# Altium schematic symbol library power_board_schhlib.SchLib: 66 symbols
Pins are listed as number, name and electrical type; pins without a type are passive.

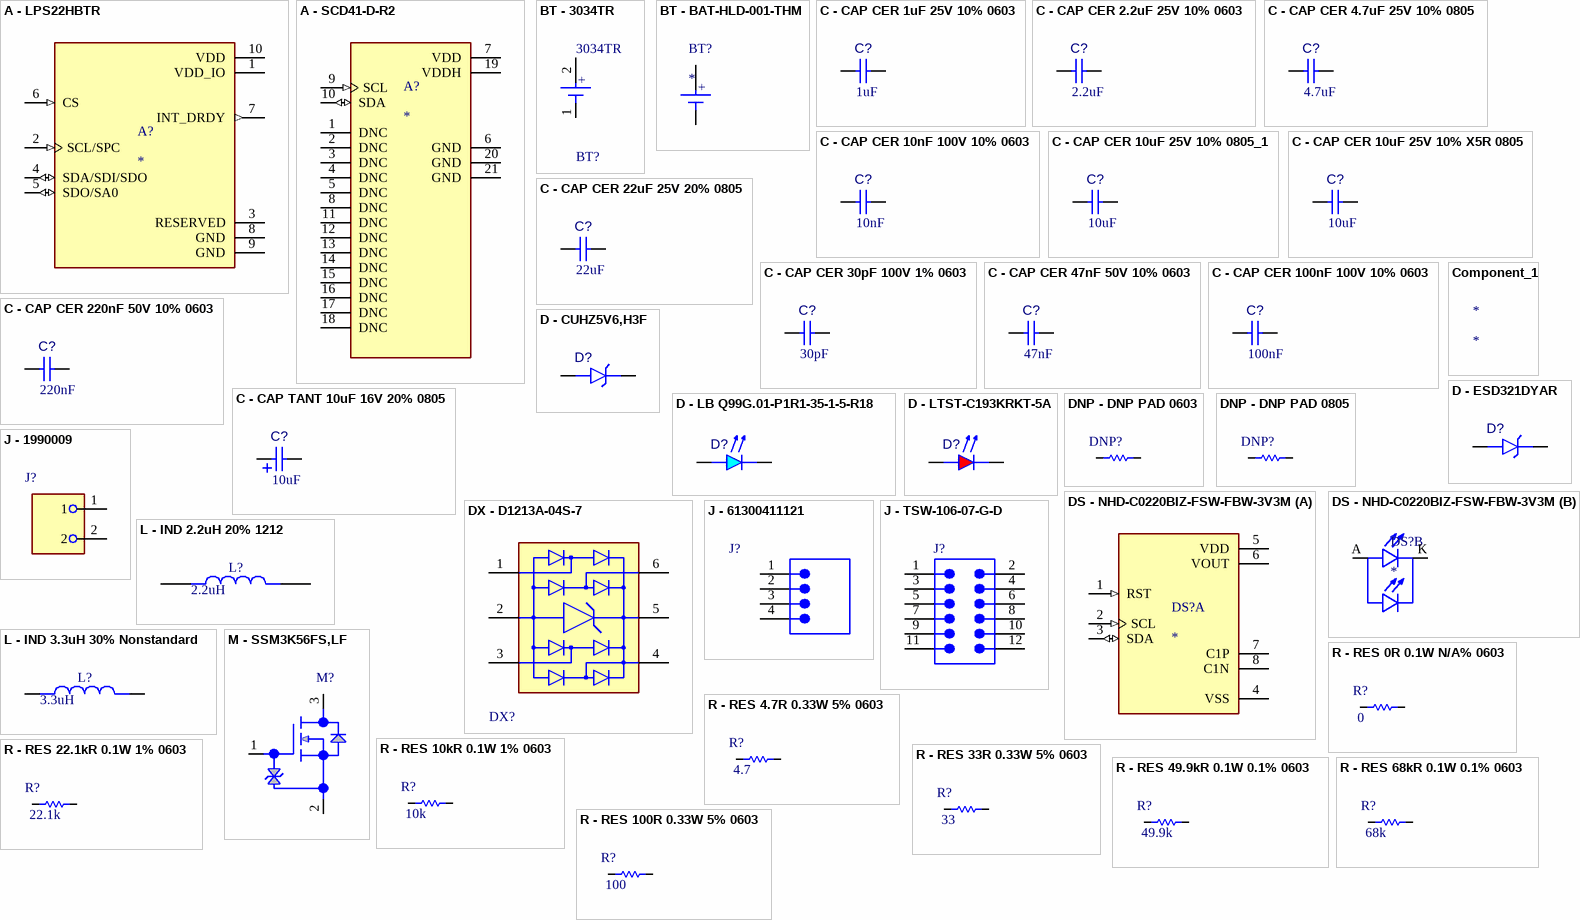
[diagram p0: symbols A - LPS22HBTR to R - RES 100R 0.33W 5% 0603]

## A - LPS22HBTR
designator A?
LPS22HBTR - Pressure Sensor 3.77PSI ~ 18.27PSI (26kPa ~ 126kPa) Absolute 24 b 10-WFLGA Exposed Pad; MF: STMicroelectronics; SnapEDA_Link: https://www.snapeda.com/parts/LPS22HBTR/STMicroelectronics/view-part/?ref=snap; Package: WFLGA-10 STMicroelectronics; MP: LPS22HBTR; Check_prices: https://www.snapeda.com/parts/LPS22HBTR/STMicroelectronics/view-part/?ref=eda; Purchase-URL: https://pricing.snapeda.com/search/part/LPS22HBTR/?ref=eda; Price: None; Value: *; Availability: In Stock
footprint A - PQFN50P200X200X80-10N
pins: 1 VDD_IO (power), 2 SCL/SPC (in), 3 RESERVED, 4 SDA/SDI/SDO (io), 5 SDO/SA0 (io), 6 CS (in), 7 INT_DRDY (out), 8 GND (power), 9 GND (power), 10 VDD (power)

## A - SCD41-D-R2
designator A?
SCD41-D-R2 - Air Quality Sensor CO2 Sensor 2.5V/3.3V/5V 20-Pin SMD EP; MF: Sensirion AG; SnapEDA_Link: https://www.snapeda.com/parts/SCD41-D-R2/Sensirion+AG/view-part/?ref=snap; Availability: In Stock; MP: SCD41-D-R2; Price: None; Purchase-URL: https://pricing.snapeda.com/search/part/SCD41-D-R2/?ref=eda; Package: None; Check_prices: https://www.snapeda.com/parts/SCD41-D-R2/Sensirion+AG/view-part/?ref=eda; Value: *
footprint A - XDCR_SCD41-D-R2
pins: 1 DNC, 2 DNC, 3 DNC, 4 DNC, 5 DNC, 6 GND (power), 7 VDD (power), 8 DNC, 9 SCL (in), 10 SDA (io), 11 DNC, 12 DNC, 13 DNC, 14 DNC, 15 DNC, 16 DNC, 17 DNC, 18 DNC, 19 VDDH (power), 20 GND (power), 21 GND (power)

## BT - 3034TR
designator BT?, comment 3034TR
3034TR - BATTERY RETAINER COIN 20MM SMD; Number of Batteries: 1; Lead Free: Lead Free; Mount: Surface Mount; Number of Cells: 1; Termination: SMD/SMT; Package Quantity: 500; Packaging: Tape and Reel; Contact Plating: Tin; Case/Package: SMD/SMT; Material: Bronze
footprint BT - 3034TR - MFG
pins: 1 C, 2 A
text: +

## BT - BAT-HLD-001-THM
designator BT?
footprint BT - BAT-HLD-001-THM
pins: N 1, P4 A
text: +

## C - CAP CER 1uF 25V 10% 0603
designator C?, comment value 1uF  (hidden comment: CAP CER 220nF 50V 10% 0603)
GCJ188R71E105KA01D - 1 µF ±10% 25V Ceramic Capacitor X7R 0603 (1608 Metric); Parameter 2: *
footprint CAP_0603
pins: 1, 2

## C - CAP CER 2.2uF 25V 10% 0603
designator C?  value 2.2uF
GRM188Z71E225KE43D - 2.2 µF ±10% 25V Ceramic Capacitor X7R 0603 (1608 Metric); Parameter 2: *
footprint CAP_0603
pins: 1, 2

## C - CAP CER 4.7uF 25V 10% 0805
designator C?, comment value 4.7uF  (hidden comment: CAP CER 220nF 50V 10% 0603)
GRM21BZ71E475KE15L - CAP CER 4.7UF 25V X7R 0805; Parameter 2: *
footprint CAP 0805
pins: 1, 2

## C - CAP CER 10nF 100V 10% 0603
designator C?  value 10nF
GCM188R72A103KA37D - 10000 pF ±10% 100V Ceramic Capacitor X7R 0603 (1608 Metric); Parameter 2: *
footprint CAP_0603
pins: 1, 2

## C - CAP CER 10uF 25V 10% 0805_1
designator C?, comment value 10uF  (hidden comment: CAP CER 220nF 50V 10% 0603)
GRM21BZ71E106KE15L - 10 µF ±10% 25V Ceramic Capacitor X7R 0805 (2012 Metric); Parameter 2: *
footprint CAP 0805
pins: 1, 2

## C - CAP CER 10uF 25V 10% X5R 0805
designator C?, comment value 10uF  (hidden comment: GRM21BR61E106KA73L)
GRM21BR61E106KA73L - 10 µF ±10% 25V Ceramic Capacitor X5R 0805 (2012 Metric); Parameter 2: *
footprint CAP 0805
pins: 1, 2

## C - CAP CER 22uF 25V 20% 0805
designator C?, comment value 22uF  (hidden comment: GRM21BR61E226ME44L)
GRM21BR61E226ME44L - 22 µF ±20% 25V Ceramic Capacitor X5R 0805 (2012 Metric); Parameter 2: *
footprint CAP 0805
pins: 1, 2

## C - CAP CER 30pF 100V 1% 0603
designator C?  value 30pF
GCM1885G2A300FA16J - 30 pF ±1% 100V Ceramic Capacitor X8G 0603 (1608 Metric); Parameter 2: *
footprint CAP_0603
pins: 1, 2

## C - CAP CER 47nF 50V 10% 0603
designator C?, comment value 47nF  (hidden comment: CAP CER 100nF 100V 10% 0603)
GCJ188R71H473KA12D - 0.047 µF ±10% 50V Ceramic Capacitor X7R 0603 (1608 Metric); Parameter 2: *
footprint CAP_0603
pins: 1, 2

## C - CAP CER 100nF 100V 10% 0603
designator C?  value 100nF
GRM188R72A104KA35D - 0.1 µF ±10% 100V Ceramic Capacitor X7R 0603 (1608 Metric); Parameter 2: *
footprint CAP_0603
pins: 1, 2

## C - CAP CER 220nF 50V 10% 0603
designator C?, comment value 220nF  (hidden comment: CAP CER 220nF 50V 10% 0603)
GCM188R71H224KA64D - 0.22 µF ±10% 50V Ceramic Capacitor X7R 0603 (1608 Metric); Parameter 2: *
footprint CAP_0603
pins: 1, 2

## C - CAP TANT 10uF 16V 20% 0805
designator C?  value 10uF
TCTP1C106M8R - 10 µF Molded Tantalum Capacitors 16 V 0805 (2012 Metric) 6Ohm; Parameter 2: *
footprint CAP 0805 TANT
pins: 1, 2

## Component_1
designator *

## D - CUHZ5V6,H3F
designator D?
CUHZ5V6,H3F - TVS DIODE 5.6VWM 5.7VC US2H
footprint D - CUHZ5V6,H3F
pins: 1 K, 2 A

## D - ESD321DYAR
designator D?
ESD321DYAR - 6.3V (Typ) Clamp 6A (8/20µs) Ipp Tvs Diode Surface Mount SOT-5X3
footprint D - ESD321DYAR (ESD321DYAR)
pins: 1 A, 2 K

## D - LB Q99G.01-P1R1-35-1-5-R18
designator D?
LB Q99G.01-P1R1-35-1-5-R18 - Blue 470nm LED Indication - Discrete 2.85V 0603 (1608 Metric)
footprint LED 0603
pins: 1 A, 2 K

## D - LTST-C193KRKT-5A
designator D?
LTST-C193KRKT-5A - Red 631nm LED Indication - Discrete 2V 0603 (1608 Metric)
footprint LED 0603
pins: 1 A, 2 K

## DNP - DNP PAD 0603
designator DNP?  (value not drawn)
footprint DNP 0603
pins: 1, 2

## DNP - DNP PAD 0805
designator DNP?  (value not drawn)
footprint DNP 0805
pins: 1, 2

## DS - NHD-C0220BIZ-FSW-FBW-3V3M
designator DS?
NHD-C0220BIZ-FSW-FBW-3V3M; MP: NHD-C0220BIZ-FSW-FBW-3V3M; Price: None; Availability: Unavailable; Value: *; Package: None
footprint DS - LCD_NHD-C0220BIZ-FSW-FBW-3V3M (NHD-C0220BIZ-FSW-FBW-3V3M)
part A pins: 1 RST (in), 2 SCL (in), 3 SDA (io), 4 VSS (power), 5 VDD (power), 6 VOUT (power), 7 C1P, 8 C1N
part B pins: A, K

## DX - D1213A-04S-7
designator DX?
D1213A-04S-7 - 10V (Typ) Clamp 1A (8/20µs) Ipp Tvs Diode Surface Mount SOT-363
footprint DX - D1213A-04S-7
pins: 1 CH1, 2 VN, 3 CH2, 4 CH3, 5 VP, 6 CH4

## J - 1990009
designator J?  (value not drawn)
1990009 - 2 Position Wire to Board Terminal Block 45° (135°) Angle with Board 0.098" (2.50mm) Through Hole
footprint J - 1990009
pins: 1, 2

## J - 61300411121
designator J?, comment Copy of SMTC-TSW-106-07-X-D_1  (value not drawn)
61300411121 - Connector Header Through Hole 4 position 0.100" (2.54mm)
footprint J - 61300411121
pins: 1, 2 3, 3 5, 4 7

## J - TSW-106-07-G-D
designator J?, comment Copy of SMTC-TSW-106-07-X-D_1  (value not drawn)
TSW-106-07-G-D - 0.025" SQ Post Header, Through-hole, Vertical, -55 to 125 degC, 2.54 mm Pitch, 12-Pin, Male, RoHS
footprint J - TSW-106-07-X-D_1
pins: 1, 2, 3, 4, 5, 6, 7, 8, 9, 10, 11, 12

## L - IND 2.2uH 20% 1212
designator L?  value 2.2uH
L - LQH3NPZ2R2MMEL
footprint L - 2.2uH 20% 1212
pins: 1, 2

## L - IND 3.3uH 30% Nonstandard
designator L?, comment value 3.3uH  (hidden comment: SRN8040-3R3Y)
SRN8040-3R3Y - 3.3 µH Shielded Drum Core, Wirewound Inductor 5.6 A 21mOhm Max Nonstandard
footprint L - SRN8040-3R3Y (SRN8040-3R3Y)
pins: 1, 2

## M - SSM3K56FS,LF
designator M?
SSM3K56FS,LF - N-Channel 20 V 800mA (Ta) 150mW (Ta) Surface Mount SSM; Manufacturer_Name: Toshiba Electronic Devices & Storage Corp.; Copyright: Copyright (C) 2026 Ultra Librarian. All rights reserved.; Manufacturer_Part_Number: SSM3K56FS,LF; Datasheet: https://toshiba.semicon-storage.com/info/docget.jsp?did=13419&prodName=SSM3K56FS; RefDes: Refdes; Type: Type
footprint M - SSM3K56FS,LF
pins: 1, 2, 3

## R - RES 0R 0.1W N/A% 0603
designator R?  value 0  (hidden comment: *)
ERJ-3GEY0R00V - 0 Ohms Jumper Chip Resistor 0603 (1608 Metric) Automotive AEC-Q200 Thick Film
footprint RES 0603
pins: 1, 2

## R - RES 4.7R 0.33W 5% 0603
designator R?  value 4.7  (hidden comment: *)
ERJ-PA3J4R7V - 4.7 Ohms ±5% 0.333W, 1/3W Chip Resistor 0603 (1608 Metric) Automotive AEC-Q200, Pulse Withstanding Thick Film
footprint RES 0603
pins: 1, 2

## R - RES 10kR 0.1W 1% 0603
designator R?  value 10k  (hidden comment: *)
ERA-3AEB103V - 10 kOhms ±0.1% 0.1W, 1/10W Chip Resistor 0603 (1608 Metric) Automotive AEC-Q200 Thin Film
footprint RES 0603
pins: 1, 2

## R - RES 22.1kR 0.1W 1% 0603
designator R?, comment value 22.1k  (hidden comment: ERJ-3EKF2212V)
ERJ-3EKF2212V - 22.1 kOhms ±1% 0.1W, 1/10W Chip Resistor 0603 (1608 Metric) Automotive AEC-Q200 Thick Film
footprint RES 0603
pins: 1, 2

## R - RES 33R 0.33W 5% 0603
designator R?  value 33  (hidden comment: *)
ERJ-PA3J330V - 33 Ohms ±5% 0.333W, 1/3W Chip Resistor 0603 (1608 Metric) Automotive AEC-Q200, Pulse Withstanding Thick Film
footprint RES 0603
pins: 1, 2

## R - RES 49.9kR 0.1W 0.1% 0603
designator R?  value 49.9k  (hidden comment: *)
ERA-3AEB4992V - 49.9 kOhms ±0.1% 0.1W, 1/10W Chip Resistor 0603 (1608 Metric) Automotive AEC-Q200 Thin Film
footprint RES 0603
pins: 1, 2

## R - RES 68kR 0.1W 0.1% 0603
designator R?  value 68k  (hidden comment: *)
ERA-3AEB683V - 68 kOhms ±0.1% 0.1W, 1/10W Chip Resistor 0603 (1608 Metric) Automotive AEC-Q200 Thin Film
footprint RES 0603
pins: 1, 2

## R - RES 100R 0.33W 5% 0603
designator R?  value 100  (hidden comment: *)
ERJ-PA3J101V - 100 Ohms ±5% 0.333W, 1/3W Chip Resistor 0603 (1608 Metric) Automotive AEC-Q200, Pulse Withstanding Thick Film
footprint RES 0603
pins: 1, 2

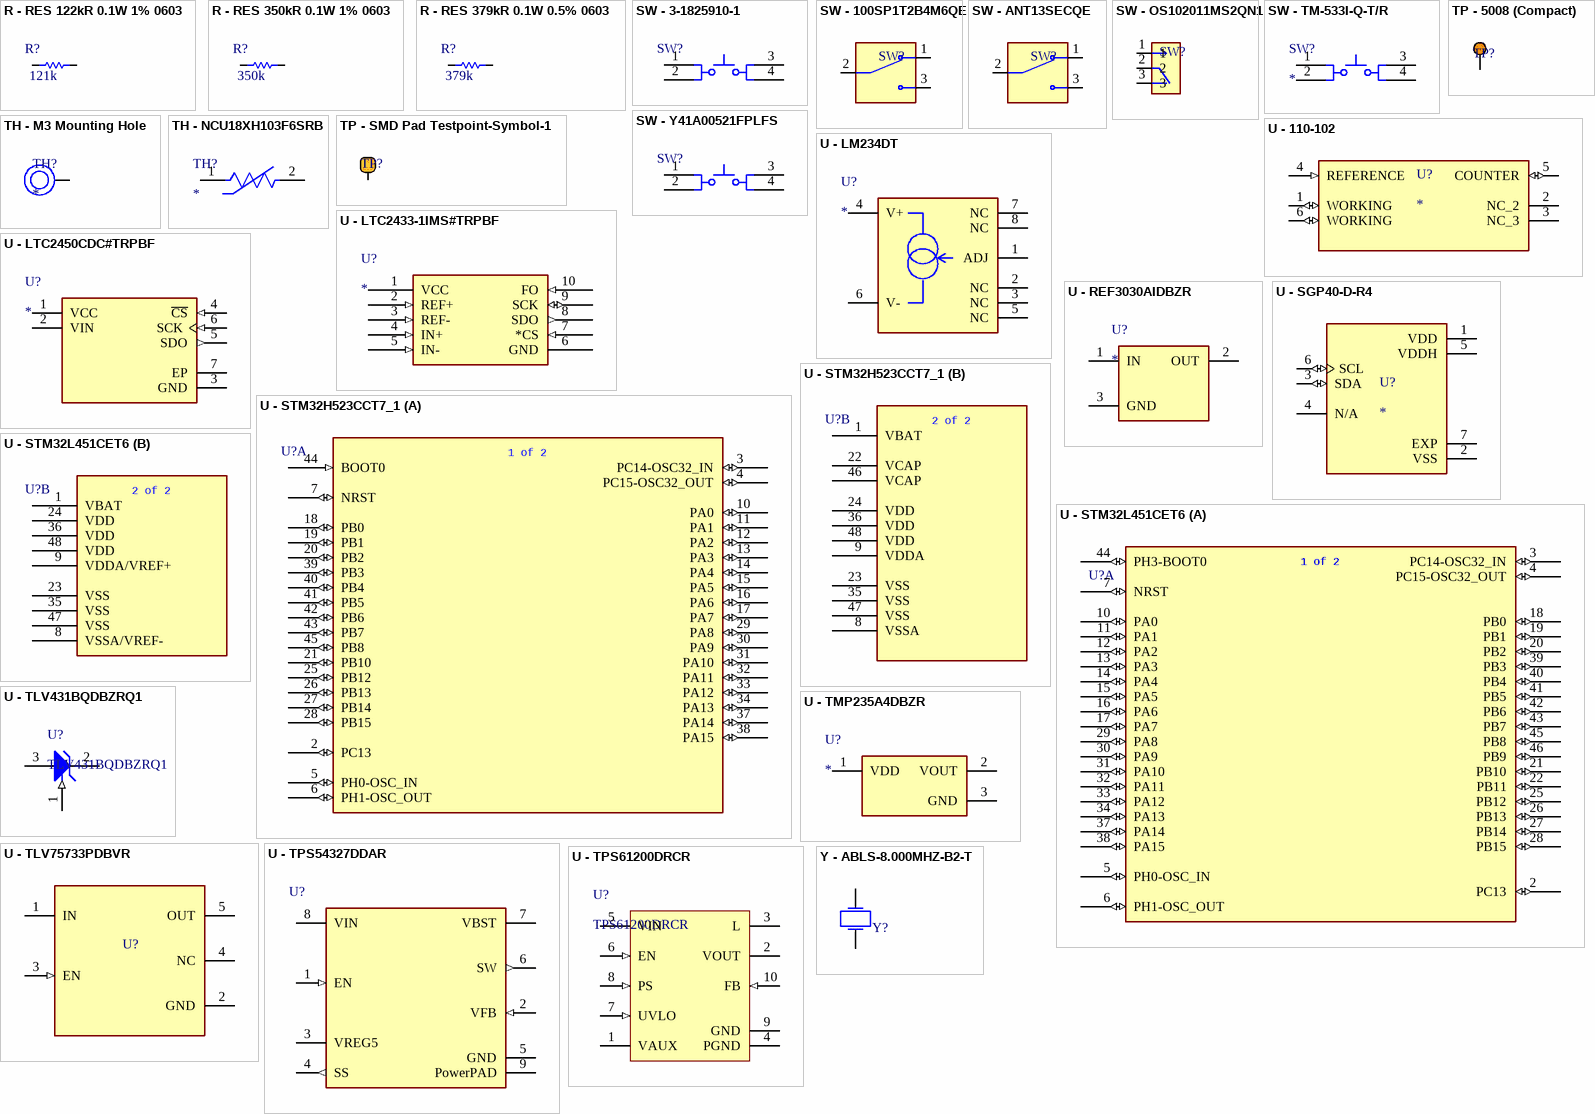
[diagram p1: symbols R - RES 122kR 0.1W 1% 0603 to Y - ABLS-8.000MHZ-B2-T]

## R - RES 122kR 0.1W 1% 0603
designator R?, comment value 121k  (hidden comment: RC0603FR-07121KL)
RC0603FR-07121KL - 121 kOhms ±1% 0.1W, 1/10W Chip Resistor 0603 (1608 Metric) Moisture Resistant Thick Film
footprint RES 0603
pins: 1, 2

## R - RES 350kR 0.1W 1% 0603
designator R?  value 350k  (hidden comment: *)
ERJ-3EKF3483V - 348 kOhms ±1% 0.1W, 1/10W Chip Resistor 0603 (1608 Metric) Automotive AEC-Q200 Thick Film
footprint RES 0603
pins: 1, 2

## R - RES 379kR 0.1W 0.5% 0603
designator R?  value 379k  (hidden comment: *)
RT0603DRE07379KL - 379 kOhms ±0.5% 0.1W, 1/10W Chip Resistor 0603 (1608 Metric) Thin Film
footprint RES 0603
pins: 1, 2

## SW - 3-1825910-1
designator SW?  (value not drawn)
3-1825910-1 - Tactile Switch SPST-NO Top Actuated Through Hole
footprint SW - 3-1825910-1 (3-1825910-1)
pins: 1, 2, 3, 4

## SW - 100SP1T2B4M6QE
designator SW?  (value not drawn)
100SP1T2B4M6QE - Toggle Switch, 100 Series, SPDT, ON-NONE-ON, Sealed, 5A, 120VAC, 28VDC, R/A PC; MF: E-Switch; Value: *; SnapEDA_Link: https://www.snapeda.com/parts/100SP1T2B4M6QE/E-Switch/view-part/?ref=snap; MP: 100SP1T2B4M6QE; Purchase-URL: https://pricing.snapeda.com/search/part/100SP1T2B4M6QE/?ref=eda; Check_prices: https://www.snapeda.com/parts/100SP1T2B4M6QE/E-Switch/view-part/?ref=eda; Availability: In Stock; Price: None; Package: None
footprint SW - 100SP1T2B4M6QE
pins: 1, 2, 3

## SW - ANT13SECQE
designator SW?  (value not drawn)
ANT13SECQE - Toggle Switch SPDT Through Hole 5A, 120V; MP: 100SP1T2B4M6QE; MF: E-Switch; Value: *; SnapEDA_Link: https://www.snapeda.com/parts/100SP1T2B4M6QE/E-Switch/view-part/?ref=snap; Purchase-URL: https://pricing.snapeda.com/search/part/100SP1T2B4M6QE/?ref=eda; Check_prices: https://www.snapeda.com/parts/100SP1T2B4M6QE/E-Switch/view-part/?ref=eda; Availability: In Stock; Price: None; Package: None
footprint SW - ANT13SECQE (ANT13SECQE)
pins: 1, 2, 3

## SW - OS102011MS2QN1
designator SW?  (value not drawn)
OS102011MS2QN1 - SLIDE SWITCH SPDT T/H ON-ON BBM; MF: C&K; SnapEDA_Link: https://www.snapeda.com/parts/OS102011MS2QN1/C%2526K/view-part/?ref=snap; Purchase-URL: https://pricing.snapeda.com/search/part/OS102011MS2QN1/?ref=eda; MP: OS102011MS2QN1; Value: *; Digi-Key_Part_Number: CKN9565-ND; Check_prices: https://www.snapeda.com/parts/OS102011MS2QN1/C%2526K/view-part/?ref=eda; Package: None
footprint SW - OS102011MS2QN1
pins: 1, 2, 3

## SW - TM-533I-Q-T/R
designator SW?
footprint SW - TM-533I-Q-T/R
pins: 1, 2, 3, 4

## SW - Y41A00521FPLFS
designator SW?  (value not drawn)
Y41A00521FPLFS - Pushbutton Switch SPST-NO Keyswitch Through Hole
footprint SW - Y41A00521FPLFS
pins: 1, 2, 3, 4

## TH - M3 Mounting Hole
designator TH?
footprint M3 Mounting
pins: 1

## TH - NCU18XH103F6SRB
designator TH?
Thermistor
footprint RES 0603
footprint TH - FP-NCU18-0_15-MFG
pins: 1, 2

## TP - 5008 (Compact)
designator TP?  (value not drawn)
5008 - Orange PC Test Point, Compact Phosphor Bronze Silver Plating Through Hole Mounting Type
footprint 5008 - Keystone Compact Footprint
pins: 1

## TP - SMD Pad Testpoint-Symbol-1
designator TP?  (value not drawn)
Testpoint used for debugging and testing. SMD Pad
footprint TP - SMD Pad Testpoint
pins: 1

## U - 110-102
designator U?
110-102 - SENSOR GAS CO ANALOG CUR MOD; Package: None; Price: None; Value: *; MP: 110-102; Availability: Unavailable
footprint U - XDCR_110-102
pins: 1 WORKING (io), 2 NC_2, 3 NC_3, 4 REFERENCE (in), 5 COUNTER (io), 6 WORKING (io)

## U - LM234DT
designator U?
footprint U - LM234DT
pins: 1 ADJ, 2 NC, 3 NC, 4 V+, 5 NC, 6 V-, 7 NC, 8 NC

## U - LTC2433-1IMS#TRPBF
designator U?
MF: {'manufacturer': u'Analog Devices Inc.'}; MP: LTC2433-1IMS#TRPBF; Package: None; Price: None; Value: *; Availability: Unavailable
footprint U - LTC2433-1IMS#TRPBF
pins: 1 VCC (power), 2 REF+ (in), 3 REF- (in), 4 IN+ (in), 5 IN- (in), 6 GND (power), 7 *CS (in), 8 SDO (out), 9 SCK (io), 10 FO (in)

## U - LTC2450CDC#TRPBF
designator U?
LTC2450CDC#TRPBF - 16 Bit Analog to Digital Converter 1 Input 1 Sigma-Delta 6-DFN (2x2)
footprint U - LTC2450CDC#TRPBF - MFG
pins: 1 VCC (power), 2 VIN (power), 3 GND (power), 4 ~{CS} (in), 5 SDO (out), 6 SCK (in), 7 EP

## U - REF3030AIDBZR
designator U?
REF3030AIDBZR - Series Voltage Reference IC Fixed 3V V ±0.2% 25 mA SOT-23-3
footprint U - REF3030AIDBZR
pins: 1 IN (power), 2 OUT (power), 3 GND (power)

## U - SGP40-D-R4
designator U?
SGP40-D-R4 - AIR QUALITY GAS SENSOR LOW POWER; MF: Sensirion AG; SnapEDA_Link: https://www.snapeda.com/parts/SGP40-D-R4/Sensirion/view-part/?ref=snap; Package: None; Value: *; MP: SGP40-D-R4; Check_prices: https://www.snapeda.com/parts/SGP40-D-R4/Sensirion/view-part/?ref=eda
footprint U - XCDR_SGP40-D-R4
pins: 1 VDD (power), 2 VSS (power), 3 SDA (io), 4 N/A, 5 VDDH (power), 6 SCL (io), 7 EXP (power)

## U - STM32H523CCT7_1
designator U?, comment STM32H523CCT6  (value not drawn)
STM32H523CCT7 - High-performance, Arm Cortex-M33, MCU with 256-Kbyte Flash, 272-Kbyte RAM, 250 MHz CPU; Manufacturer_Name: STMicroelectronics; Copyright: Copyright (C) 2025 Ultra Librarian. All rights reserved.; Manufacturer_Part_Number: STM32H523CCT6; Datasheet: https://www.st.com/resource/en/datasheet/stm32h523ce.pdf; RefDes: RefDes; Type: Type
footprint U - LQFP48_STM (STM32H523CCT7)
part A pins: 2 PC13 (io), 3 PC14-OSC32_IN (io), 4 PC15-OSC32_OUT (io), 5 PH0-OSC_IN (io), 6 PH1-OSC_OUT (io), 7 NRST (io), 10 PA0 (io), 11 PA1 (io), 12 PA2 (io), 13 PA3 (io), 14 PA4 (io), 15 PA5 (io), 16 PA6 (io), 17 PA7 (io), 18 PB0 (io), 19 PB1 (io), 20 PB2 (io), 21 PB10 (io), 25 PB12 (io), 26 PB13 (io), 27 PB14 (io), 28 PB15 (io), 29 PA8 (io), 30 PA9 (io), 31 PA10 (io), 32 PA11 (io), 33 PA12 (io), 34 PA13 (io), 37 PA14 (io), 38 PA15 (io), 39 PB3 (io), 40 PB4 (io), 41 PB5 (io), 42 PB6 (io), 43 PB7 (io), 44 BOOT0 (in), 45 PB8 (io)
part B pins: 1 VBAT (power), 8 VSSA (power), 9 VDDA (power), 22 VCAP (power), 23 VSS (power), 24 VDD (power), 35 VSS (power), 36 VDD (power), 46 VCAP (power), 47 VSS (power), 48 VDD (power)
part A text: 1 of 2
part B text: 2 of 2

## U - STM32L451CET6
designator U?, comment STM32L451CET6  (value not drawn)
STM32L451CET6 - Ultra-low-power with FPU Arm Cortex-M4 MCU 80 MHz with 512 kbytes of Flash memory, DFSDM; Manufacturer_Name: STMicroelectronics; Copyright: Copyright (C) 2026 Ultra Librarian. All rights reserved.; Manufacturer_Part_Number: STM32L451CET6; Datasheet: https://www.st.com/resource/en/datasheet/stm32l451cc.pdf; RefDes: RefDes; Type: Type
footprint U - STM32L451CET6 (LQFP48-7x7mm)
part A pins: 2 PC13 (io), 3 PC14-OSC32_IN (io), 4 PC15-OSC32_OUT (io), 5 PH0-OSC_IN (io), 6 PH1-OSC_OUT (io), 7 NRST (io), 10 PA0 (io), 11 PA1 (io), 12 PA2 (io), 13 PA3 (io), 14 PA4 (io), 15 PA5 (io), 16 PA6 (io), 17 PA7 (io), 18 PB0 (io), 19 PB1 (io), 20 PB2 (io), 21 PB10 (io), 22 PB11 (io), 25 PB12 (io), 26 PB13 (io), 27 PB14 (io), 28 PB15 (io), 29 PA8 (io), 30 PA9 (io), 31 PA10 (io), 32 PA11 (io), 33 PA12 (io), 34 PA13 (io), 37 PA14 (io), 38 PA15 (io), 39 PB3 (io), 40 PB4 (io), 41 PB5 (io), 42 PB6 (io), 43 PB7 (io), 44 PH3-BOOT0 (io), 45 PB8 (io), 46 PB9 (io)
part B pins: 1 VBAT (power), 8 VSSA/VREF- (power), 9 VDDA/VREF+ (power), 23 VSS (power), 24 VDD (power), 35 VSS (power), 36 VDD (power), 47 VSS (power), 48 VDD (power)
part A text: 1 of 2
part B text: 2 of 2

## U - TLV431BQDBZRQ1
designator U?, comment TLV431BQDBZRQ1
Automotive Catalog Low-Voltage Adjustable Precision Shunt Regulator, 15 mA, -40 to 125 degC, 3-pin SOT-23 (DBZ), Green (RoHS & no Sb/Br); Manufacturer: Texas Instruments; VO Adj(Min)(V): 1.24; Iout/Iz(Max)(mA): 15; Min Iz for Regulation(uA): 80; Initial Accuracy @ 25/deg C(%): 0.5; VO Adj(Max)(V): 6; SubFamily: Shunt Voltage Reference; Code_JEDEC: TO-236; Mounting Technology: Surface Mount; Eco-Plan: Green (RoHS & no Sb/Br); ComponentLink2Description: Datasheet; ComponentLink1URL: http://www.ti.com/; ComponentLink1Description: Manufacturer URL; ComponentLink3Description: Package Specification; PackageDescription: 3-Pin Plastic Small Outline, Body 2.92 x 1.3 mm, Pitch 0.95 mm; ComponentLink3URL: http://www.ti.com/litv/pdf/mpds108a; PackageVersion: 4203227/B; PartNumber: TLV431BQDBZRQ1; ComponentLink2URL: http://www.ti.com/general/docs/lit/getliterature.tsp?genericPartNumber=TLV431B-Q1&fileType=pdf; DatasheetVersion: SLVS905; Rating: Automotive; PackageReference: DBZ0003A
footprint U - TLV431BQDBZRQ1 (SOT23, 3-Leads, Body 3.04x1.4mm, Pitch 0.95mm, IPC Low Density)
pins: 1 REF (in), 2 CATHODE, 3 ANODE

## U - TLV75733PDBVR
designator U?, comment TLV75733PDBVR  (value not drawn)
TLV75733PDBVR - 1-A, low-IQ high-accuracy low-dropout (LDO) voltage regulator with enable 5-SOT-23 -40 to 125; Manufacturer_Name: Texas Instruments; TYPE: TYPE; RefDes: RefDes; Copyright: Copyright (C) 2025 Ultra Librarian. All rights reserved.; Manufacturer_Part_Number: TLV75733PDBVR
footprint U - TLV75733PDBVR
pins: 1 IN (power), 2 GND (power), 3 EN (in), 4 NC, 5 OUT (power)

## U - TMP235A4DBZR
designator U?
TMP235A4DBZR - Temperature Sensor Analog, Local -40°C ~ 150°C 10mV/°C SOT-23-3
footprint U - TMP235A4DBZR - MFG
pins: 1 VDD (power), 2 VOUT, 3 GND (power)

## U - TPS54327DDAR
designator U?  (value not drawn)
TPS54327DDAR - 4.5V to 18V Input, 3-A Synchronous Step-Down Converter 8-SO PowerPAD -40 to 85; Manufacturer: Texas Instruments; Manufacturer Lifecycle Status: ACTIVE; Max Duty Cycle: 65%; Max Junction Temperature (Tj): 150°C; Max Output current: 3A; Max Output Voltage: 7V; Min Output Voltage: 760mV; Number of Outputs: 1; Output Type: Adjustable; Quiescent Current: 800µA; Switching Frequency: 700kHz; Synchronous Rectifier: Yes; Topology: Buck; Supplier: Arrow Electronics; Supplier Part Number: TPS54327DDAR; Manufacturer Part Number: TPS54327DDAR; RoHS: Compliant; Category: Voltage Regulators - Switching; Stock: 1279; Pricing: 1=0.6794, 10=0.6274, 25=0.6062, 100=0.5869, 250=0.5746, 500=0.5667, 1000=0.5659 (USD); Ambient Temperature Range High: 85°C; Case/Package: SOIC; Height: 1.7mm; Lead Free: Lead Free; Length: 4.89mm; Lifecycle Status: Production; Max Supply Voltage: 18V; Max Operating Temperature: 85°C; Min Input Voltage: 4.5V; Min Operating Temperature: -40°C; Min Supply Voltage: 4.5V; Mounting Technology: Surface Mount; Pins: 8; Operating Supply Voltage: 18V; Output Current: 3A; Output Voltage: 7V; Radiation Hardening: No; REACH SVHC: No; Schedule B: 8542390000, 8542390000|8542390000|8542390000|8542390000|8542390000|8542390000|8542390000|8542390000|8542390000|8542390000|8542390000|8542390000|8542390000|8542390000|8542390000|8542390000|8542390000|8542390000|8542390000|8542390000|8542390000|8542390000|8542390000|85; Thickness: 1.48mm; Width: 3.9mm; ComponentLink1URL: https://sigma.octopart.com:443/104526336/technical_drawing/Texas-Instruments-TPS54327DDAR.pdf?src-supplier=Texas+Instruments; ComponentLink1Description: https://sigma.octopart.com:443/104526336/technical_drawing/Texas-Instruments-TPS54327DDAR.pdf?src-supplier=Texas+Instruments; ComponentLink2URL: https://octopart.com:443/opatz8j6/c1?t=__oNFOOaapSnVhz0JflxbbROEjMn8qx0VggcesLOsXVm1qBAI6HAgPyurjCw25N1bkmQFW9yPGBgGx0-OV6a1qCNd9haLjfDrSeyB36yHi6CHhDXm-X7AM3shTtTS0K4ufWLPGM9035tvF3WY9KNnW27Vhg7gZVrUz3zgjZoNzKmWPY3h9s6FdGiccB1hjyl0IMgFUWajN9-O9PJGonuZiqlYX9N7MFFrv_aEWgd4nLGzrjzb1ZMCAGS7na2gkf_w1DNitacGewcJ7_jjdbNMF49miKa1GomPL32h1pk-zJMmO4U7WZEuJMSZzz263ggCOI6NALWkgBSsXKod034_KSXhjmHQ1neP2H1Fy7hs0iEIe6iEpO48cB1RbMREqoeTuPL-udS&src-supplier=Texas+Instruments; ComponentLink2Description: https://octopart.com:443/opatz8j6/c1?t=__oNFOOaapSnVhz0JflxbbROEjMn8qx0VggcesLOsXVm1qBAI6HAgPyurjCw25N1bkmQFW9yPGBgGx0-OV6a1qCNd9haLjfDrSeyB36yHi6CHhDXm-X7AM3shTtTS0K4ufWLPGM9035tvF3WY9KNnW27Vhg7gZVrUz3zgjZoNzKmWPY3h9s6FdGiccB1hjyl0IMgFUWajN9-O9PJGonuZiqlYX9N7MFFrv_aEWgd4nLGzrjzb1ZMCAGS7na2gkf_w1DNitacGewcJ7_jjdbNMF49miKa1GomPL32h1pk-zJMmO4U7WZEuJMSZzz263ggCOI6NALWkgBSsXKod034_KSXhjmHQ1neP2H1Fy7hs0iEIe6iEpO48cB1RbMREqoeTuPL-udS&src-supplier=Texas+Instruments; ComponentLink3URL: https://datasheet.octopart.com:443/TPS54327DDAR-Texas-Instruments-datasheet-37740753.pdf?src-supplier=Texas+Instruments; ComponentLink3Description: https://datasheet.octopart.com:443/TPS54327DDAR-Texas-Instruments-datasheet-37740753.pdf?src-supplier=Texas+Instruments; ComponentLink4URL: https://datasheet.octopart.com:443/TPS54327DDAR-Texas-Instruments-datasheet-16054356.pdf?src-supplier=Texas+Instruments; ComponentLink4Description: https://datasheet.octopart.com:443/TPS54327DDAR-Texas-Instruments-datasheet-16054356.pdf?src-supplier=Texas+Instruments; ComponentLink5URL: https://datasheet.octopart.com:443/TPS54327DDAR-Texas-Instruments-datasheet-10669736.pdf?src-supplier=Texas+Instruments; ComponentLink5Description: https://datasheet.octopart.com:443/TPS54327DDAR-Texas-Instruments-datasheet-10669736.pdf?src-supplier=Texas+Instruments; ComponentLink6URL: https://sigma.octopart.com:443/49250132/technical_drawing/Texas-Instruments-TPS54327DDAR.pdf?src-supplier=Texas+Instruments; ComponentLink6Description: https://sigma.octopart.com:443/49250132/technical_drawing/Texas-Instruments-TPS54327DDAR.pdf?src-supplier=Texas+Instruments; ComponentLink7URL: https://datasheet.octopart.com:443/TPS54327DDAR-Texas-Instruments-datasheet-10254758.pdf?src-supplier=Texas+Instruments; ComponentLink7Description: https://datasheet.octopart.com:443/TPS54327DDAR-Texas-Instruments-datasheet-10254758.pdf?src-supplier=Texas+Instruments; ComponentLink8URL: https://datasheet.octopart.com:443/TPS54327DDAR-Texas-Instruments-datasheet-33022096.pdf?src-supplier=Upverter; ComponentLink8Description: https://datasheet.octopart.com:443/TPS54327DDAR-Texas-Instruments-datasheet-33022096.pdf?src-supplier=Upverter; ComponentLink9URL: https://datasheet.octopart.com:443/TPS54327DDAR-Texas-Instruments-datasheet-17023036.pdf?src-supplier=Newark; ComponentLink9Description: https://datasheet.octopart.com:443/TPS54327DDAR-Texas-Instruments-datasheet-17023036.pdf?src-supplier=Newark; ComponentLink10URL: https://datasheet.octopart.com:443/TPS54327DDAR-Texas-Instruments-datasheet-62089011.pdf?src-supplier=Newark; ComponentLink10Description: https://datasheet.octopart.com:443/TPS54327DDAR-Texas-Instruments-datasheet-62089011.pdf?src-supplier=Newark; ComponentLink11URL: https://datasheet.octopart.com:443/TPS54327DDAR-Texas-Instruments-datasheet-62336983.pdf?src-supplier=Newark; ComponentLink11Description: https://datasheet.octopart.com:443/TPS54327DDAR-Texas-Instruments-datasheet-62336983.pdf?src-supplier=Newark; ComponentLink12URL: https://datasheet.octopart.com:443/TPS54327DDAR-Texas-Instruments-datasheet-66617763.pdf?src-supplier=element14+APAC; ComponentLink12Description: https://datasheet.octopart.com:443/TPS54327DDAR-Texas-Instruments-datasheet-66617763.pdf?src-supplier=element14+APAC; ComponentLink13URL: https://datasheet.octopart.com:443/TPS54327DDAR-Texas-Instruments-datasheet-62292587.pdf?src-supplier=Farnell; ComponentLink13Description: https://datasheet.octopart.com:443/TPS54327DDAR-Texas-Instruments-datasheet-62292587.pdf?src-supplier=Farnell; ComponentLink14URL: https://datasheet.octopart.com:443/TPS54327DDAR-Texas-Instruments-datasheet-165804759.pdf?src-supplier=LCSC; ComponentLink14Description: https://datasheet.octopart.com:443/TPS54327DDAR-Texas-Instruments-datasheet-165804759.pdf?src-supplier=LCSC; ComponentLink15URL: https://datasheet.octopart.com:443/TPS54327DDAR-Texas-Instruments-datasheet-159590145.pdf?src-supplier=LCSC; ComponentLink15Description: https://datasheet.octopart.com:443/TPS54327DDAR-Texas-Instruments-datasheet-159590145.pdf?src-supplier=LCSC; ComponentLink16URL: https://datasheet.octopart.com:443/TPS54327DDAR-Texas-Instruments-datasheet-137316104.pdf?src-supplier=Future+Electronics; ComponentLink16Description: https://datasheet.octopart.com:443/TPS54327DDAR-Texas-Instruments-datasheet-137316104.pdf?src-supplier=Future+Electronics; ComponentLink17URL: https://datasheet.octopart.com:443/TPS54327DDAR-Texas-Instruments-datasheet-14168096.pdf?src-supplier=iiiC; ComponentLink17Description: https://datasheet.octopart.com:443/TPS54327DDAR-Texas-Instruments-datasheet-14168096.pdf?src-supplier=iiiC; ComponentLink18URL: http://sigma.octopart.com:80/reach_statement/Texas-Instruments-company-64.pdf?src-supplier=Compliance+Statements; ComponentLink18Description: http://sigma.octopart.com:80/reach_statement/Texas-Instruments-company-64.pdf?src-supplier=Compliance+Statements; ComponentLink19URL: http://sigma.octopart.com:80/conflict_mineral_statement/Texas-Instruments-company-63.pdf?src-supplier=Compliance+Statements; ComponentLink19Description: http://sigma.octopart.com:80/conflict_mineral_statement/Texas-Instruments-company-63.pdf?src-supplier=Compliance+Statements
footprint U - TPS54327DDAR MFG
pins: 1 EN (in), 2 VFB (in), 3 VREG5 (power), 4 SS (out), 5 GND (power), 6 SW (out), 7 VBST (power), 8 VIN (power), 9 PowerPAD (power)

## U - TPS61200DRCR
designator U?, comment TPS61200DRCR
TPS61200DRCR - Boost Switching Regulator IC Positive Adjustable 1.8V 1 Output 1.2A (Switch) 10-VFDFN Exposed Pad
footprint U - TPS61200DRCR
pins: 1 VAUX (power) "Supply voltage for control stage", 2 VOUT (power) "Boost converter output", 3 L (power) "Connection for Inductor", 4 PGND (power) "Power ground", 5 VIN (power) "Boost converter input voltage", 6 EN (in) "Enable input (1: enabled, 0: disabled).", 7 UVLO (in) "Undervoltage lockout comparator input, must be connected to VAUX if not used", 8 PS (in) "Enable/disable Power Save mode (1 : disabled, 0: enabled)", 9 GND (power) "Control / logic ground", 10 FB (in) "Voltage feedback of adjustable versions, must be connected to VOUT at fixed output voltage versions"

## Y - ABLS-8.000MHZ-B2-T
designator Y?
ABLS-8.000MHZ-B2-T - CRYSTAL 8.0000MHZ 18PF SMD
footprint Y - ABLS-8.000MHZ-B2-T
pins: 1 (power), 2 (power)